# Altium schematic symbol library WE-MAPI_2512.SchLib: 13 symbols
Pins are listed as number, name and electrical type; pins without a type are passive.

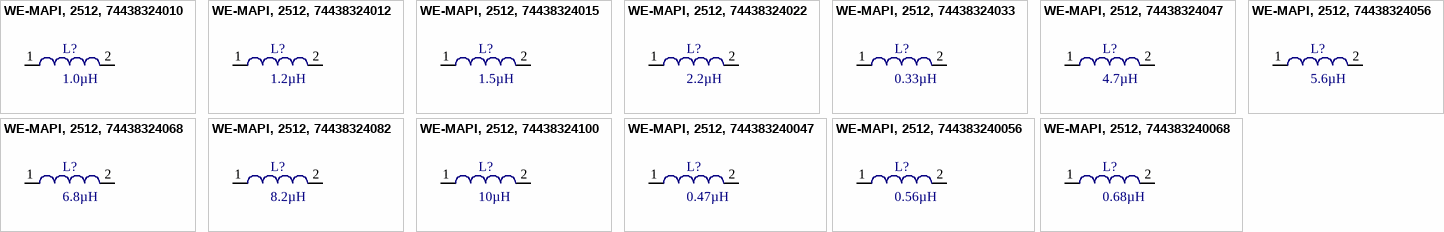
[diagram p0: symbols WE-MAPI, 2512, 74438324010 to WE-MAPI, 2512, 744383240068]

## WE-MAPI, 2512, 74438324010
designator L?, comment 1.0µH
SMD Power Inductor WE-MAPI, L=1.0µH; partNo: 74438324010; Manufacturer: Würth Elektronik eiSos GmbH; Inductance: 1.0µH; ComponentLink1Description: Manufacturer; ComponentLink1URL: http://www.we-online.de; Created by: Christin Zierenner; Created Date: Oct-2014; ComponentLink2Description: Datasheet; ComponentLink2URL: http://katalog.we-online.de/kataloge/eisos/media/pdf/74438324010.pdf
footprint WE-MAPI 2512 (SMD Inductor, 2-Leads, Body 2.5x 2mm,IPC Medium Density)
pins: 1, 2

## WE-MAPI, 2512, 74438324012
designator L?, comment 1.2µH
SMD Power Inductor WE-MAPI, L=1.2µH; partNo: 74438324012; Manufacturer: Würth Elektronik eiSos GmbH; Inductance: 1.2µH; ComponentLink1Description: Manufacturer; ComponentLink1URL: http://www.we-online.de; Created by: Christin Zierenner; Created Date: Oct-2014; ComponentLink2Description: Datasheet; ComponentLink2URL: http://katalog.we-online.de/kataloge/eisos/media/pdf/74438324012.pdf
footprint WE-MAPI 2512 (SMD Inductor, 2-Leads, Body 2.5x 2mm,IPC Medium Density)
pins: 1, 2

## WE-MAPI, 2512, 74438324015
designator L?, comment 1.5µH
SMD Power Inductor WE-MAPI, L=01.5µH; partNo: 74438324015; Manufacturer: Würth Elektronik eiSos GmbH; Inductance: 1.5µH; ComponentLink1Description: Manufacturer; ComponentLink1URL: http://www.we-online.de; Created by: Christin Zierenner; Created Date: Oct-2014; ComponentLink2Description: Datasheet; ComponentLink2URL: http://katalog.we-online.de/kataloge/eisos/media/pdf/74438324015.pdf
footprint WE-MAPI 2512 (SMD Inductor, 2-Leads, Body 2.5x 2mm,IPC Medium Density)
pins: 1, 2

## WE-MAPI, 2512, 74438324022
designator L?, comment 2.2µH
SMD Power Inductor WE-MAPI, L=2.2µH; partNo: 74438324022; Manufacturer: Würth Elektronik eiSos GmbH; Inductance: 2.2µH; ComponentLink1Description: Manufacturer; ComponentLink1URL: http://www.we-online.de; Created by: Christin Zierenner; Created Date: Oct-2014; ComponentLink2Description: Datasheet; ComponentLink2URL: http://katalog.we-online.de/kataloge/eisos/media/pdf/74438324022.pdf
footprint WE-MAPI 2512 (SMD Inductor, 2-Leads, Body 2.5x 2mm,IPC Medium Density)
pins: 1, 2

## WE-MAPI, 2512, 74438324033
designator L?, comment 0.33µH
SMD Power Inductor WE-MAPI, L=0.33µH; partNo: 74438324033; Manufacturer: Würth Elektronik eiSos GmbH; Inductance: 0.33µH; ComponentLink1Description: Manufacturer; ComponentLink1URL: http://www.we-online.de; Created by: Christin Zierenner; Created Date: Oct-2014; ComponentLink2Description: Datasheet; ComponentLink2URL: http://katalog.we-online.de/kataloge/eisos/media/pdf/74438324033.pdf
footprint WE-MAPI 2512 (SMD Inductor, 2-Leads, Body 2.5x 2mm,IPC Medium Density)
pins: 1, 2

## WE-MAPI, 2512, 74438324047
designator L?, comment 4.7µH
SMD Power Inductor WE-MAPI, L=4.7µH; partNo: 74438324047; Manufacturer: Würth Elektronik eiSos GmbH; Inductance: 4.7µH; ComponentLink1Description: Manufacturer; ComponentLink1URL: http://www.we-online.de; Created by: Christin Zierenner; Created Date: Oct-2014; ComponentLink2Description: Datasheet; ComponentLink2URL: http://katalog.we-online.de/kataloge/eisos/media/pdf/74438324047.pdf
footprint WE-MAPI 2512 (SMD Inductor, 2-Leads, Body 2.5x 2mm,IPC Medium Density)
pins: 1, 2

## WE-MAPI, 2512, 74438324056
designator L?, comment 5.6µH
SMD Power Inductor WE-MAPI, L=5.6µH; partNo: 74438324056; Manufacturer: Würth Elektronik eiSos GmbH; Inductance: 5.6µH; ComponentLink1Description: Manufacturer; ComponentLink1URL: http://www.we-online.de; Created by: Christin Zierenner; Created Date: Oct-2014; ComponentLink2Description: Datasheet; ComponentLink2URL: http://katalog.we-online.de/kataloge/eisos/media/pdf/74438324056.pdf
footprint WE-MAPI 2512 (SMD Inductor, 2-Leads, Body 2.5x 2mm,IPC Medium Density)
pins: 1, 2

## WE-MAPI, 2512, 74438324068
designator L?, comment 6.8µH
SMD Power Inductor WE-MAPI, L=6.8µH; partNo: 74438324068; Manufacturer: Würth Elektronik eiSos GmbH; Inductance: 6.8µH; ComponentLink1Description: Manufacturer; ComponentLink1URL: http://www.we-online.de; Created by: Christin Zierenner; Created Date: Oct-2014; ComponentLink2Description: Datasheet; ComponentLink2URL: http://katalog.we-online.de/kataloge/eisos/media/pdf/74438324068.pdf
footprint WE-MAPI 2512 (SMD Inductor, 2-Leads, Body 2.5x 2mm,IPC Medium Density)
pins: 1, 2

## WE-MAPI, 2512, 74438324082
designator L?, comment 8.2µH
SMD Power Inductor WE-MAPI, L=8.2µH; partNo: 74438324082; Manufacturer: Würth Elektronik eiSos GmbH; Inductance: 8.2µH; ComponentLink1Description: Manufacturer; ComponentLink1URL: http://www.we-online.de; Created by: Christin Zierenner; Created Date: Oct-2014; ComponentLink2Description: Datasheet; ComponentLink2URL: http://katalog.we-online.de/kataloge/eisos/media/pdf/74438324082.pdf
footprint WE-MAPI 2512 (SMD Inductor, 2-Leads, Body 2.5x 2mm,IPC Medium Density)
pins: 1, 2

## WE-MAPI, 2512, 74438324100
designator L?, comment 10µH
SMD Power Inductor WE-MAPI, L=10µH; partNo: 74438324100; Manufacturer: Würth Elektronik eiSos GmbH; Inductance: 10µH; ComponentLink1Description: Manufacturer; ComponentLink1URL: http://www.we-online.de; Created by: Christin Zierenner; Created Date: Oct-2014; ComponentLink2Description: Datasheet; ComponentLink2URL: http://katalog.we-online.de/kataloge/eisos/media/pdf/74438324100.pdf
footprint WE-MAPI 2512 (SMD Inductor, 2-Leads, Body 2.5x 2mm,IPC Medium Density)
pins: 1, 2

## WE-MAPI, 2512, 744383240047
designator L?, comment 0.47µH
SMD Power Inductor WE-MAPI, L=0.47µH; partNo: 744383240047; Manufacturer: Würth Elektronik eiSos GmbH; Inductance: 0.47µH; ComponentLink1Description: Manufacturer; ComponentLink1URL: http://www.we-online.de; Created by: Christin Zierenner; Created Date: Oct-2014; ComponentLink2Description: Datasheet; ComponentLink2URL: http://katalog.we-online.de/kataloge/eisos/media/pdf/744383240047.pdf
footprint WE-MAPI 2512 (SMD Inductor, 2-Leads, Body 2.5x 2mm,IPC Medium Density)
pins: 1, 2

## WE-MAPI, 2512, 744383240056
designator L?, comment 0.56µH
SMD Power Inductor WE-MAPI, L=0.56µH; partNo: 744383240056; Manufacturer: Würth Elektronik eiSos GmbH; Inductance: 0.56µH; ComponentLink1Description: Manufacturer; ComponentLink1URL: http://www.we-online.de; Created by: Christin Zierenner; Created Date: Oct-2014; ComponentLink2Description: Datasheet; ComponentLink2URL: http://katalog.we-online.de/kataloge/eisos/media/pdf/744383240056.pdf
footprint WE-MAPI 2512 (SMD Inductor, 2-Leads, Body 2.5x 2mm,IPC Medium Density)
pins: 1, 2

## WE-MAPI, 2512, 744383240068
designator L?, comment 0.68µH
SMD Power Inductor WE-MAPI, L=0.68µH; partNo: 744383240068; Manufacturer: Würth Elektronik eiSos GmbH; Inductance: 0.68µH; ComponentLink1Description: Manufacturer; ComponentLink1URL: http://www.we-online.de; Created by: Christin Zierenner; Created Date: Oct-2014; ComponentLink2Description: Datasheet; ComponentLink2URL: http://katalog.we-online.de/kataloge/eisos/media/pdf/744383240068.pdf
footprint WE-MAPI 2512 (SMD Inductor, 2-Leads, Body 2.5x 2mm,IPC Medium Density)
pins: 1, 2